# EAGLE library part LM2775QDSGRQ1 (library Hexabitz)
Switched Capacitor 5V Boost Converter 8-WSON -40 to 125
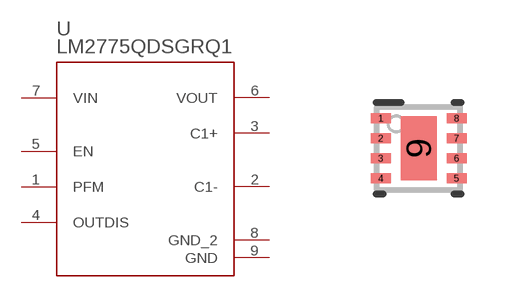
[diagram p24: symbol with the pads of DSG0008A; footprint DSG0008A]

Designator prefix U

## LM2775QDSGRQ1 (MANUFACTURER: Texas Instruments; MFN: Texas Instruments; MPN: LM2775QDSGRQ1; OCTOPART_URL: https://octopart.com/lm2775qdsgrq1-texas+instruments-93339195?r=sp&s=OA7oim0HQqaBsU4tLKFWXg LM2775QDSGRQ1; PARTNUMBER: LM2775QDSGRQ1; REFDES: RefDes; TYPE: TYPE; VALUE: LM2775-Q1)  [DSG0008A]
1  PFM  in
2  C1-  pwr
3  C1+  pwr
4  OUTDIS  in
5  EN  in
6  VOUT  pwr
7  VIN  pwr
8  GND_2  pwr
9  GND  pwr

## Footprint DSG0008A (pad centres in mm)
smd 0.5 x 0.25: 1 -0.95,0.75; 2 -0.95,0.25; 3 -0.95,-0.25; 4 -0.95,-0.75; 5 0.95,-0.75; 6 0.95,-0.25; 7 0.95,0.25; 8 0.95,0.75
smd 0.9 x 1.6: 9 0,0